# Altium schematic symbol library MyLibr.SchLib: 82 symbols
Pins are listed as number, name and electrical type; pins without a type are passive.

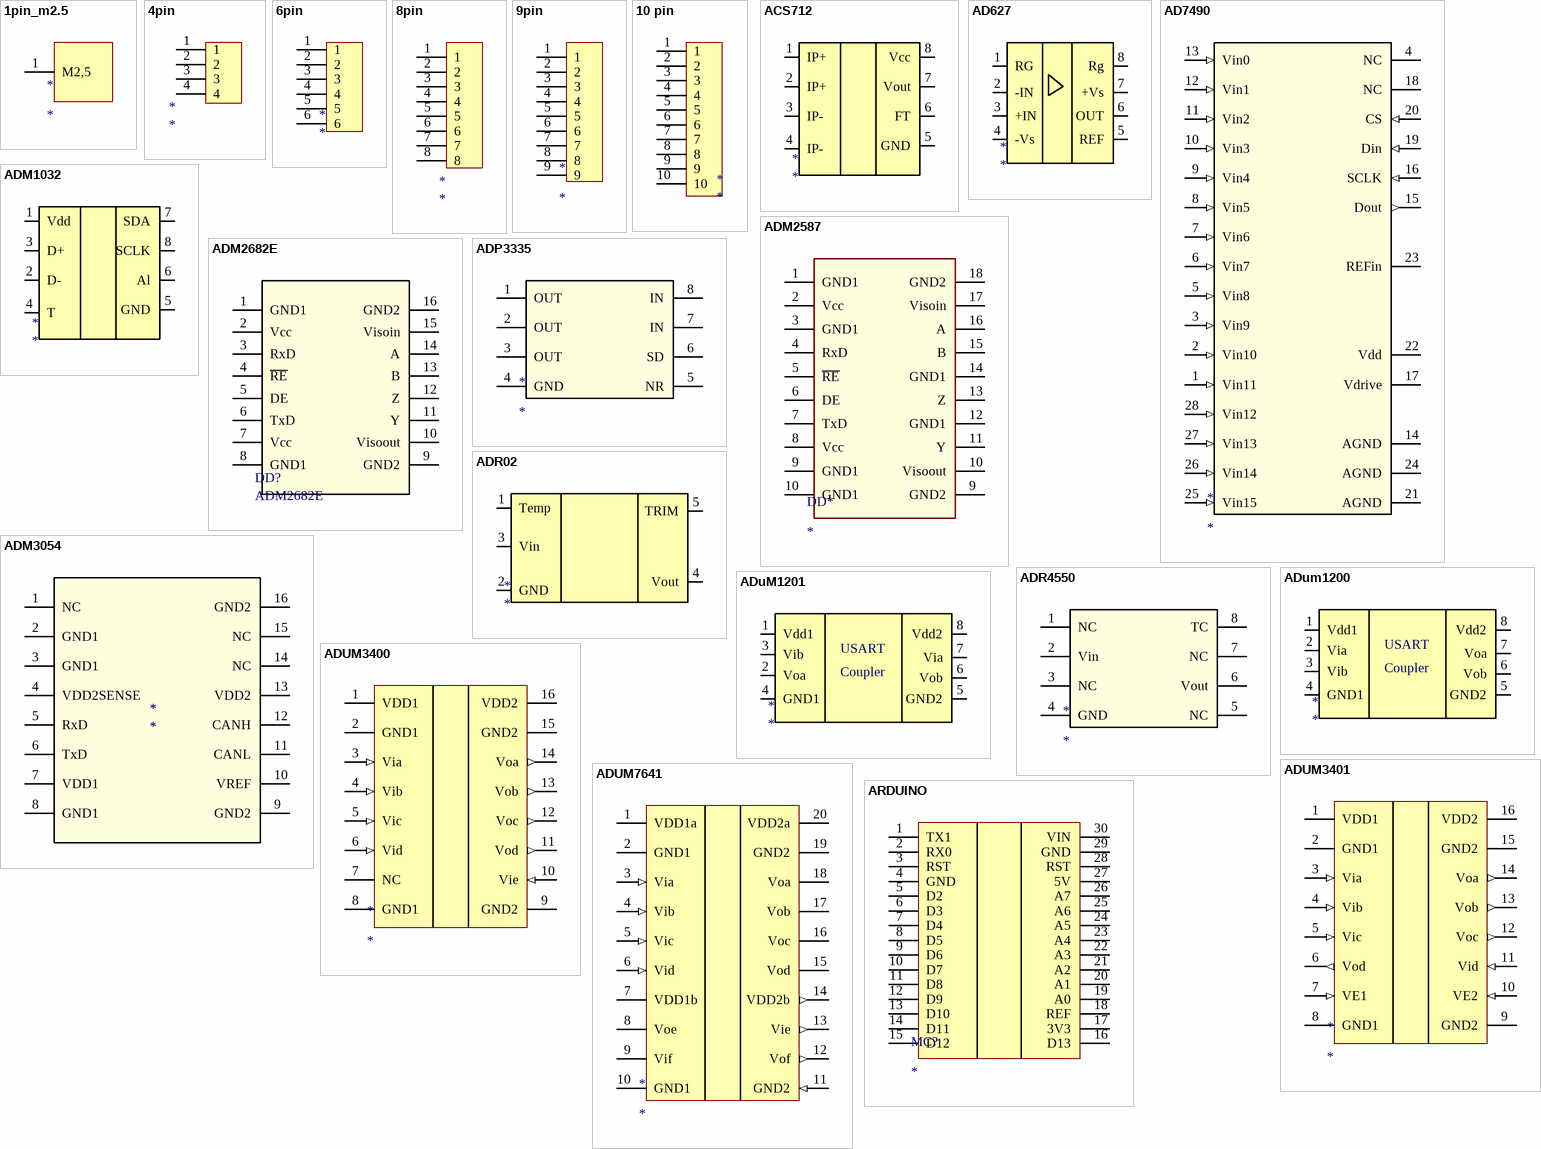
[diagram p0: symbols 1pin_m2.5 to ARDUINO]

## 1pin_m2.5
designator *
pins: 1 M2,5

## 4pin
designator *
pins: 1, 2, 3, 4

## 6pin
designator *
footprint 6pin
pins: 1, 2, 3, 4, 5, 6

## 8pin
designator *
footprint 10pin
pins: 1, 2, 3, 4, 5, 6, 7, 8

## 9pin
designator *
footprint 9PIN
pins: 1, 2, 3, 4, 5, 6, 7, 8, 9

## 10 pin
designator *
pins: 1, 2, 3, 4, 5, 6, 7, 8, 9, 10

## ACS712
designator *
footprint SOIC8N (SOIC, 8-Leads, Body 4,90x3,90mm, Pitch 1,27mm, IPC Medium Density)
pins: 1 IP+, 2 IP+, 3 IP-, 4 IP-, 5 GND, 6 FT, 7 Vout, 8 Vcc

## AD627
designator *
footprint SOIC8N (SOIC, 8-Leads, Body 4,90x3,90mm, Pitch 1,27mm, IPC Medium Density)
pins: 1 RG, 2 -IN, 3 +IN, 4 -Vs, 5 REF, 6 OUT, 7 +Vs, 8 Rg

## AD7490
designator *
footprint AD7490 (TSSOP, 28-Leads)
pins: 1 Vin11 (in), 2 Vin10 (in), 3 Vin9 (in), 4 NC, 5 Vin8 (in), 6 Vin7 (in), 7 Vin6 (in), 8 Vin5 (in), 9 Vin4 (in), 10 Vin3 (in), 11 Vin2 (in), 12 Vin1 (in), 13 Vin0 (in), 14 AGND (power), 15 Dout (out), 16 SCLK (in), 17 Vdrive (power), 18 NC, 19 Din (in), 20 CS (in), 21 AGND (power), 22 Vdd (power), 23 REFin (power), 24 AGND (power), 25 Vin15 (in), 26 Vin14 (in), 27 Vin13 (in), 28 Vin12 (in)

## ADM1032
designator *
pins: 1 Vdd, 2 D-, 3 D+, 4 T, 5 GND, 6 Al, 7 SDA, 8 SCLK

## ADM2587
designator DD*
pins: 1 GND1 (power), 2 Vcc (power), 3 GND1, 4 RxD, 5 ~{RE}, 6 DE, 7 TxD, 8 Vcc (power), 9 GND1 (power), 9 GND2 (power), 10 Visoout (power), 10 GND1, 11 Y, 12 GND1, 13 Z, 14 GND1, 15 B, 16 A, 17 Visoin (power), 18 GND2 (power)

## ADM2682E
designator DD?
footprint SOIC127P1030X265-16N (SOIC, 16-Leads, Body 12,75x7,50mm, Pitch 1,27mm, IPC Medium Density)
pins: 1 GND1 (power), 2 Vcc (power), 3 RxD, 4 ~{RE}, 5 DE, 6 TxD, 7 Vcc (power), 8 GND1 (power), 9 GND2 (power), 10 Visoout (power), 11 Y, 12 Z, 13 B, 14 A, 15 Visoin (power), 16 GND2 (power)

## ADM3054
designator *
footprint SOIC16N (SOIC, 16-Leads, Body 12,75x7,50mm, Pitch 1,27mm, IPC Medium Density)
pins: 1 NC, 2 GND1, 3 GND1, 4 VDD2SENSE, 5 RxD, 6 TxD, 7 VDD1, 8 GND1, 9 GND2, 10 VREF, 11 CANL, 12 CANH, 13 VDD2, 14 NC, 15 NC, 16 GND2

## ADP3335
designator *
footprint MSOP-8
pins: 1 OUT, 2 OUT, 3 OUT, 4 GND, 5 NR, 6 SD, 7 IN, 8 IN

## ADR02
designator *
footprint SOT95P245X110-5N (SOT23, 5-Leads, Body 2,90x2,45mm, Pitch 0,95mm, IPC Medium Density)
pins: 1 Temp, 2 GND, 3 Vin, 4 Vout, 5 TRIM

## ADR4550
designator *
footprint SOIC8N (SOIC, 8-Leads, Body 4,90x3,90mm, Pitch 1,27mm, IPC Medium Density)
pins: 1 NC, 2 Vin, 3 NC, 4 GND, 5 NC, 6 Vout, 7 NC, 8 TC

## ADum1200
designator *
footprint SOIC8N (SOIC, 8-Leads, Body 4,90x3,90mm, Pitch 1,27mm, IPC Medium Density)
pins: 1 Vdd1, 2 Via, 3 Vib, 4 GND1, 5 GND2, 6 Vob, 7 Voa, 8 Vdd2
text: USART; Coupler

## ADuM1201
designator *
pins: 1 Vdd1, 2 Voa, 3 Vib, 4 GND1, 5 GND2, 6 Vob, 7 Via, 8 Vdd2
text: USART; Coupler

## ADUM3400
designator *
footprint SOIC-16 (SOIC, 16-Leads, Body 10,30x7,50mm, Pitch 1,27mm, IPC Medium Density)
pins: 1 VDD1, 2 GND1, 3 Via (in), 4 Vib (in), 5 Vic (in), 6 Vid (in), 7 NC, 8 GND1, 9 GND2, 10 Vie (in), 11 Vod (out), 12 Voc (out), 13 Vob (out), 14 Voa (out), 15 GND2, 16 VDD2

## ADUM3401
designator *
footprint SOIC-16 (SOIC, 16-Leads, Body 10,30x7,50mm, Pitch 1,27mm, IPC Medium Density)
pins: 1 VDD1, 2 GND1, 3 Via (in), 4 Vib (in), 5 Vic (in), 6 Vod (out), 7 VE1 (in), 8 GND1, 9 GND2, 10 VE2 (in), 11 Vid (in), 12 Voc (out), 13 Vob (out), 14 Voa (out), 15 GND2, 16 VDD2

## ADUM7641
designator *
footprint QSOP20
footprint QSOP-20
pins: 1 VDD1a, 2 GND1, 3 Via (in), 4 Vib (in), 5 Vic (in), 6 Vid (in), 7 VDD1b, 8 Voe, 9 Vif, 10 GND1, 11 GND2 (in), 12 Vof (out), 13 Vie (out), 14 VDD2b (out), 15 Vod, 16 Voc, 17 Vob, 18 Voa, 19 GND2, 20 VDD2a

## ARDUINO
designator MC?
footprint Arduino_Nano
pins: 1 TX1, 2 RX0, 3 RST, 4 GND, 5 D2, 6 D3, 7 D4, 8 D5, 9 D6, 10 D7, 11 D8, 12 D9, 13 D10, 14 D11, 15 D12, 16 D13, 17 3V3, 18 REF, 19 A0, 20 A1, 21 A2, 22 A3, 23 A4, 24 A5, 25 A6, 26 A7, 27 5V, 28 RST, 29 GND, 30 VIN

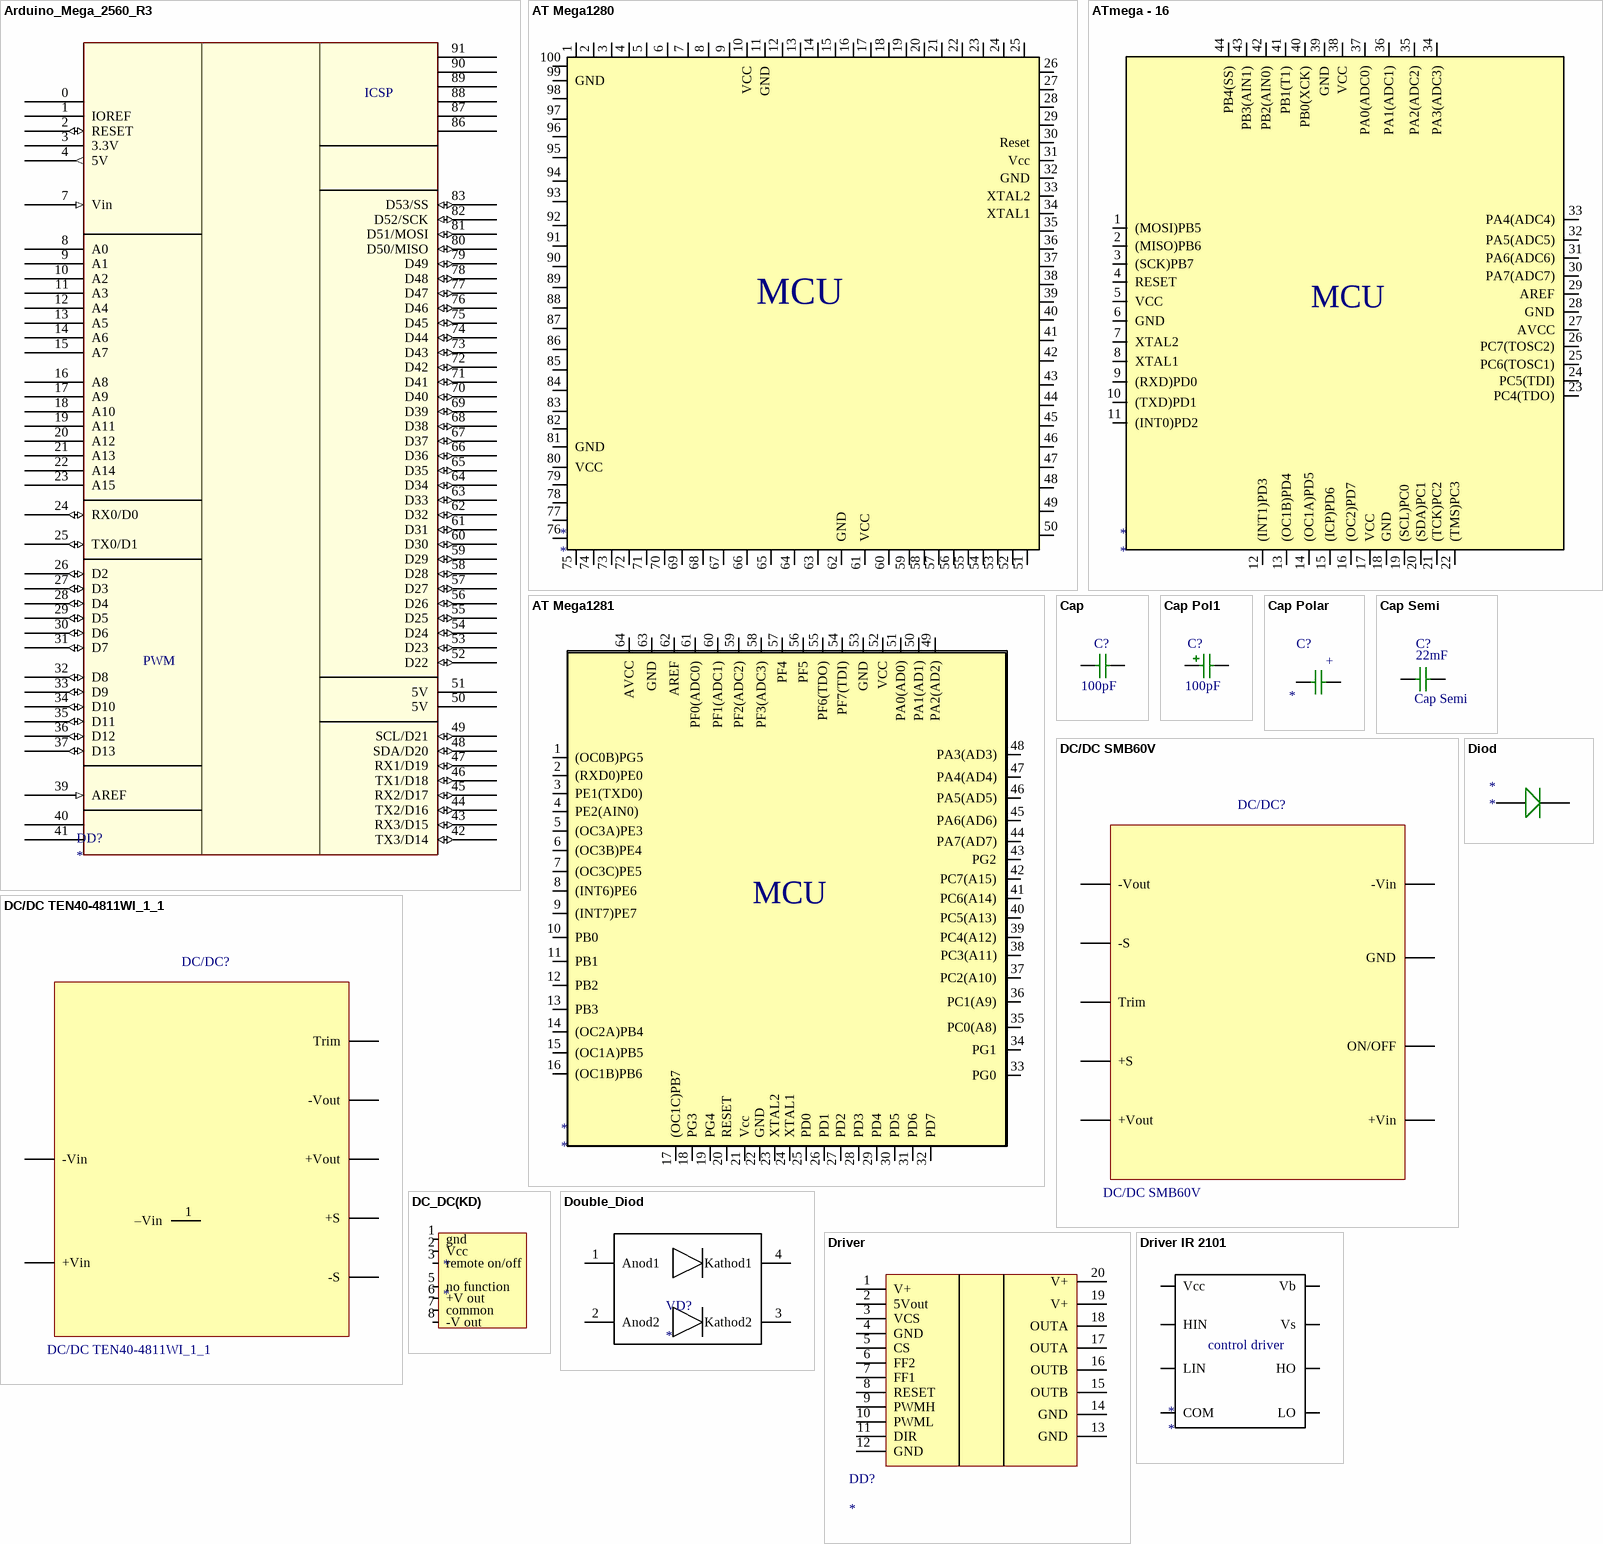
[diagram p1: symbols Arduino_Mega_2560_R3 to Driver IR 2101]

## Arduino_Mega_2560_R3
designator DD?
footprint Arduino_Mega_2560_R3
pins: 0  , 1 IOREF, 2 RESET (io), 3 3.3V (power), 4 5V (out), 5 GND (power) hidden to GND, 6 GND (power) hidden to GND, 7 Vin (in), 8 A0, 9 A1, 10 A2, 11 A3, 12 A4, 13 A5, 14 A6, 15 A7, 16 A8, 17 A9, 18 A10, 19 A11, 20 A12, 21 A13, 22 A14, 23 A15, 24 RX0/D0 (io), 25 TX0/D1 (io), 26 D2 (io), 27 D3 (io), 28 D4 (io), 29 D5 (io), 30 D6 (io), 31 D7 (io), 32 D8 (io), 33 D9 (io), 34 D10 (io), 35 D11 (io), 36 D12 (io), 37 D13 (io), 38 GND (power) hidden to GND, 39 AREF (in), 40  , 41  , 42 TX3/D14 (io), 43 RX3/D15 (io), 44 TX2/D16 (io), 45 RX2/D17 (io), 46 TX1/D18 (io), 47 RX1/D19 (io), 48 SDA/D20 (io), 49 SCL/D21 (io), 50 5V (power), 51 5V (power), 52 D22 (io), 53 D23 (io), 54 D24 (io), 55 D25 (io), 56 D26 (io), 57 D27 (io), 58 D28 (io), 59 D29 (io), 60 D30 (io), 61 D31 (io), 62 D32 (io), 63 D33 (io), 64 D34 (io), 65 D35 (io), 66 D36 (io), 67 D37 (io), 68 D38 (io), 69 D39 (io), 70 D40 (io), 71 D41 (io), 72 D42 (io), 73 D43 (io), 74 D44 (io), 75 D45 (io), 76 D46 (io), 77 D47 (io), 78 D48 (io), 79 D49 (io), 80 D50/MISO (io), 81 D51/MOSI (io), 82 D52/SCK (io), 83 D53/SS (io), 84 GND (power) hidden to GND, 85 GND (power) hidden to GND, 86  , 87  , 88  , 89  , 90  , 91  
text: ICSP; PWM

## AT Mega1280
designator *
footprint TSQFP50P1600X1600X120-100M (TSQFP, 100-Leads, Body 14,00x14,00mm, Pitch 0,50mm, IPC Low Density)
pins: 1 9, 2, 3, 4, 5, 6, 7, 8, 9, 10 VCC, 11 GND, 12, 13, 14, 15, 16, 17, 18, 19, 20, 21, 22, 23, 24, 25, 26, 27, 28, 29, 30 Reset, 31 Vcc, 32 GND, 33 XTAL2, 34 XTAL1, 35, 36, 37, 38, 39, 40, 41, 42, 43, 44, 45, 46, 47, 48, 49, 50, 51, 52, 53, 54, 55, 56, 57, 58, 59, 60, 61 VCC, 62 GND, 63, 64, 65, 66, 67, 68, 69, 70, 71, 72, 73, 74, 75, 76, 77, 78, 79, 80 VCC, 81 GND, 82, 83, 84, 85, 86, 87, 88, 89, 90, 91, 92, 93, 94, 95, 96, 97, 98, 99 GND, 100
1 alternate drawing of the same symbol
text: MCU

## AT Mega1281
designator *
pins: 1 (OC0B)PG5, 2 (RXD0)PE0, 3 PE1(TXD0), 4 PE2(AIN0), 5 (OC3A)PE3, 6 (OC3B)PE4, 7 (OC3C)PE5, 8 (INT6)PE6, 9 (INT7)PE7, 10 PB0, 11 PB1, 12 PB2, 13 PB3, 14 (OC2A)PB4, 15 (OC1A)PB5, 16 (OC1B)PB6, 17 (OC1C)PB7, 18 PG3, 19 PG4, 20 RESET, 21 Vcc, 22 GND, 23 XTAL2, 24 XTAL1, 25 PD0, 26 PD1, 27 PD2, 28 PD3, 29 PD4, 30 PD5, 31 PD6, 32 PD7, 33 PG0, 34 PG1, 35 PC0(A8), 36 PC1(A9), 37 PC2(A10), 38 PC3(A11), 39 PC4(A12), 40 PC5(A13), 41 PC6(A14), 42 PC7(A15), 43 PG2, 44 PA7(AD7), 45 PA6(AD6), 46 PA5(AD5), 47 PA4(AD4), 48 PA3(AD3), 49 PA2(AD2), 50 PA1(AD1), 51 PA0(AD0), 52 VCC, 53 GND, 54 PF7(TDI), 55 PF6(TDO), 56 PF5, 57 PF4, 58 PF3(ADC3), 59 PF2(ADC2), 60 PF1(ADC1), 61 PF0(ADC0), 62 AREF, 63 GND, 64 AVCC
text: MCU

## ATmega - 16
designator *
footprint TQFP80P1262X1262X120-44M (TQFP, 44-Leads, Body 10,20x10,20mm, Pitch 0,80mm, IPC Low Density)
pins: 1 (MOSI)PB5, 2 (MISO)PB6, 3 (SCK)PB7, 4 RESET, 5 VCC, 6 GND, 7 XTAL2, 8 XTAL1, 9 (RXD)PD0, 10 (TXD)PD1, 11 (INT0)PD2, 12 (INT1)PD3, 13 (OC1B)PD4, 14 (OC1A)PD5, 15 (ICP)PD6, 16 (OC2)PD7, 17 VCC, 18 GND, 19 (SCL)PC0, 20 (SDA)PC1, 21 (TCK)PC2, 22 (TMS)PC3, 23 PC4(TDO), 24 PC5(TDI), 25 PC6(TOSC1), 26 PC7(TOSC2), 27 AVCC, 28 GND, 29 AREF, 30 PA7(ADC7), 31 PA6(ADC6), 32 PA5(ADC5), 33 PA4(ADC4), 34 PA3(ADC3), 35 PA2(ADC2), 36 PA1(ADC1), 37 PA0(ADC0), 38 VCC, 39 GND, 40 PB0(XCK), 41 PB1(T1), 42 PB2(AIN0), 43 PB3(AIN1), 44 PB4(SS)
text: MCU

## Cap
designator C?  value 100pF  (hidden comment: Cap)
Capacitor; Published: 8-Jun-2000; LatestRevisionDate: 17-Jul-2002; LatestRevisionNote: Re-released for DXP Platform.; PackageReference: RAD-0.3; Publisher: Altium Limited; PackageDescription: Radial Cap, Thru-Hole; 2 Leads; 0.3 in Pin Spacing
footprint 0402 (MELF Resistor, 2-Leads, Body 1,05x0,53mm, IPC Medium Density)
pins: 1, 2

## Cap Pol1
designator C?  value 100pF  (hidden comment: Cap Pol1)
Polarized Capacitor (Radial); Published: 8-Jun-2000; LatestRevisionDate: 17-Jul-2002; LatestRevisionNote: Re-released for DXP Platform.; PackageReference: RB7.6-15; Publisher: Altium Limited; PackageDescription: Polarized Capacitor (Radial); 2 Leads
footprint C_0805 (Chip Capacitor, Body 2.0x1.3mm, IPC High Density)
pins: 1, 2
1 alternate drawing of the same symbol

## Cap Polar
designator C?
footprint C_0805 (Chip Capacitor, Body 2.0x1.3mm, IPC High Density)
pins: 1, 2
text: +

## Cap Semi
designator C?  value 22mF
Capacitor (Semiconductor SIM Model); Published: 8-Jun-2000; LatestRevisionDate: 29-May-2009; LatestRevisionNote: IPC-7351 Footprint Added.; PackageReference: C1206; Publisher: Altium Limited; PackageDescription: Chip Capacitor
footprint C_0805 (Chip Capacitor, Body 2.0x1.3mm, IPC High Density)
pins: 1, 2

## DC/DC SMB60V
designator DC/DC?
datasheet: http://newet.ru/upload/iblock/da3/da32c35c0007bb917bca288ed4fe9d4e.pdf
footprint SMB60V
pins: +S, +Vin, +Vout, -S, -Vin, -Vout, GND, ON/OFF, Trim

## DC/DC TEN40-4811WI_1_1
designator DC/DC?
datasheet: http://www.tracopower.com/products/ten40wi-application.pdf
footprint TEN 40
pins: 1 –Vin, +S, +Vin, +Vout, -S, -Vin, -Vout, Trim

## DC_DC(KD)
designator *
footprint SIP-8
pins: 1 gnd, 2 Vcc, 3 remote on/off, 5 no function, 6 +V out, 7 common, 8 -V out

## Diod
designator *
footprint DIOMELF2511N (MELF Diode, 2-Leads, Body 2,55x1,10mm, IPC Medium Density)
footprint 2pin_1.27
footprint D
pins: 1 A, 2 K

## Double_Diod
designator VD?
footprint Double_Diod
pins: 1 Anod1, 2 Anod2, 3 Kathod2, 4 Kathod1

## Driver
designator DD?
footprint Driver_Pads
pins: 1 V+, 2 5Vout, 3 VCS, 4 GND, 5 CS, 6 FF2, 7 FF1, 8 RESET, 9 PWMH, 10 PWML, 11 DIR, 12 GND, 13 GND, 14 GND, 15 OUTB, 16 OUTB, 17 OUTA, 18 OUTA, 19 V+, 20 V+

## Driver IR 2101
designator *
footprint SOIC8N (SOIC, 8-Leads, Body 4,90x3,90mm, Pitch 1,27mm, IPC Medium Density)
pins: 1 Vcc, 2 HIN, 3 LIN, 4 COM, 5 LO, 6 Vs, 7 HO, 8 Vb
text: control driver

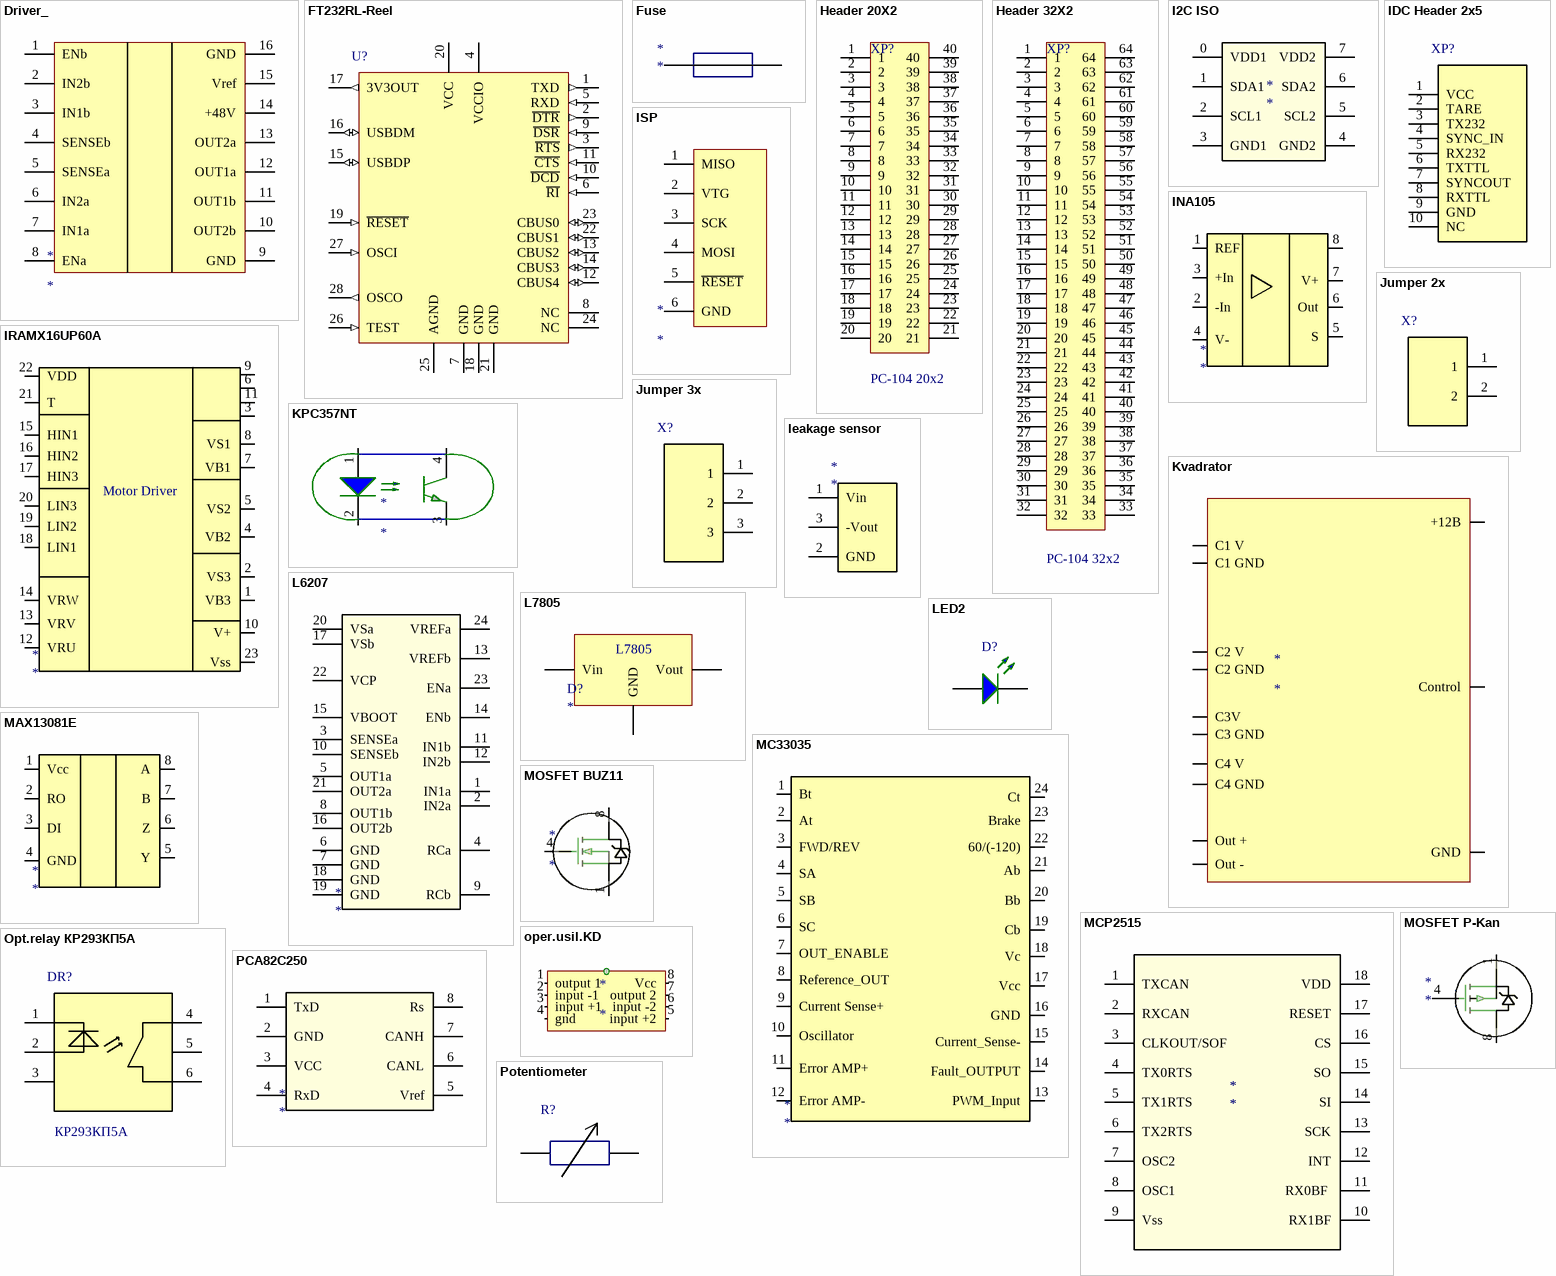
[diagram p2: symbols Driver_ to Potentiometer]

## Driver_
designator *
footprint Driver_
pins: 1 ENb, 2 IN2b, 3 IN1b, 4 SENSEb, 5 SENSEa, 6 IN2a, 7 IN1a, 8 ENa, 9 GND, 10 OUT2b, 11 OUT1b, 12 OUT1a, 13 OUT2a, 14 +48V, 15 Vref, 16 GND

## FT232RL-Reel
designator U?
USB UART Asynchronous Serial Data Transfer Chip, SSOP-28, Tape and Reel; Published: 19-Aug-2010; DatasheetVersion: ver 2.07, Jul-2010; PackageVersion: 2010; PackageReference: SSOP-28; Publisher: Altium Limited; PackageDescription: 28-Pin Small Outline Package 0.65 mm Pitch; ComponentLink1Description: Manufacturer Link; ComponentLink1URL: http://www.ftdichip.com/Products/ICs/FT232R.htm; ComponentLink2Description: Datasheet; ComponentLink2URL: http://www.ftdichip.com/Support/Documents/DataSheets/ICs/DS_FT232R.pdf
footprint SSOP-28_L
footprint SSOP-28_M (SOP, 28-Leads, Body 10.2x5.3mm, Pitch 0.65mm, IPC Low Density)
footprint SSOP-28_N (SOP, 28-Leads, Body 10.2x5.3mm, Pitch 0.65mm, IPC Medium Density)
pins: 1 TXD (out), 2 ~{DTR} (out), 3 ~{RTS} (out), 4 VCCIO (power), 5 RXD (in), 6 ~{RI} (in), 7 GND (power), 8 NC, 9 ~{DSR} (in), 10 ~{DCD} (in), 11 ~{CTS} (in), 12 CBUS4 (io), 13 CBUS2 (io), 14 CBUS3 (io), 15 USBDP (io), 16 USBDM (io), 17 3V3OUT (out), 18 GND (power), 19 ~{RESET} (in), 20 VCC (power), 21 GND (power), 22 CBUS1 (io), 23 CBUS0 (io), 24 NC, 25 AGND (power), 26 TEST (in), 27 OSCI (in), 28 OSCO (out)

## Fuse
designator *
pins: 1, 2

## Header 20X2
designator XP?, comment PC-104 20x2
Header, 20-Pin, Dual row; LatestRevisionDate: 17-Jul-2002; LatestRevisionNote: Re-released for DXP Platform.; Publisher: Altium Limited
footprint 2x20 PC-104 (Connector; Header; 20x2 Position)
pins: 1, 2, 3, 4, 5, 6, 7, 8, 9, 10, 11, 12, 13, 14, 15, 16, 17, 18, 19, 20, 21, 22, 23, 24, 25, 26, 27, 28, 29, 30, 31, 32, 33, 34, 35, 36, 37, 38, 39, 40

## Header 32X2
designator XP?, comment PC-104 32x2
Header, 32-Pin, Dual row; LatestRevisionDate: 17-Jul-2002; LatestRevisionNote: Re-released for DXP Platform.; Publisher: Altium Limited
footprint 2x32 PC-104 (Connector; Header; 32x2 Position 2.54mm)
pins: 1 "test", 2, 3, 4, 5, 6, 7, 8, 9, 10, 11, 12, 13, 14, 15, 16, 17, 18, 19, 20, 21, 22, 23, 24, 25, 26, 27, 28, 29, 30, 31, 32, 33, 34, 35, 36, 37, 38, 39, 40, 41, 42, 43, 44, 45, 46, 47, 48, 49, 50, 51, 52, 53, 54, 55, 56, 57, 58, 59, 60, 61, 62, 63, 64

## I2C ISO
designator *
pins: 0 VDD1, 1 SDA1, 2 SCL1, 3 GND1, 4 GND2, 5 SCL2, 6 SDA2, 7 VDD2

## IDC Header 2x5
designator XP?  (value not drawn)
footprint IDC-10F 2x5 2.0mm
pins: 1 VCC, 2 TARE, 3 TX232, 4 SYNC_IN, 5 RX232, 6 TXTTL, 7 SYNCOUT, 8 RXTTL, 9 GND, 10 NC

## INA105
designator *
footprint SOIC8N (SOIC, 8-Leads, Body 4,90x3,90mm, Pitch 1,27mm, IPC Medium Density)
pins: 1 REF, 2 -In, 3 +In, 4 V-, 5 S, 6 Out, 7 V+, 8

## IRAMX16UP60A
designator *
footprint IRAMX16UP60A
pins: 1 VB3, 2 VS3, 3 VS3, 4 VB2, 5 VS2, 6 VS2, 7 VB1, 8 VS1, 9 VS1, 10 V+, 11 V+, 12 VRU, 13 VRV, 14 VRW, 15 HIN1, 16 HIN2, 17 HIN3, 18 LIN1, 19 LIN2, 20 LIN3, 21 T, 22 VDD, 23 Vss
text: Motor Driver

## ISP
designator *
pins: 1 MISO, 2 VTG, 3 SCK, 4 MOSI, 5 ~{RESET}, 6 GND

## Jumper 2x
designator X?  (value not drawn)
footprint Jumper_2 (перемычка для плат)
pins: 1, 2

## Jumper 3x
designator X?  (value not drawn)
footprint Power PLUG
pins: 1, 2, 3

## KPC357NT
designator *
footprint Micro
pins: 1 A, 2 K, 3, 4

## Kvadrator
designator *
footprint Kvadrator
pins: 0 +12B, 0 C1 GND, 0 C1 V, 0 C2 V, 0 C2 GND, 0 C3V, 0 C3 GND, 0 C4 V, 0 C4 GND, 0 Out +, 0 Out -, 0 Control, 1 GND

## L6207
designator *
footprint SO24
pins: 1 IN1a, 2 IN2a, 3 SENSEa, 4 RCa, 5 OUT1a, 6 GND, 7 GND, 8 OUT1b, 9 RCb, 10 SENSEb, 11 IN1b, 12 IN2b, 13 VREFb, 14 ENb, 15 VBOOT, 16 OUT2b, 17 VSb, 18 GND, 19 GND, 20 VSa, 21 OUT2a, 22 VCP, 23 ENa, 24 VREFa

## L7805
designator D?
L7805_stab 12->5
pins: 1 Vin, 1 Vout, 2 GND

## leakage sensor
designator *
footprint SOT23
pins: 1 Vin, 2 GND, 3 -Vout

## LED2
designator D?  (value not drawn)
Typical RED, GREEN, YELLOW, AMBER GaAs LED; Published: 8-Jun-2000; LatestRevisionDate: 17-Jul-2002; LatestRevisionNote: Re-released for DXP Platform.; PackageVersion: Feb-2002; PackageReference: 3.2X1.6X1.1; Publisher: Altium Limited; PackageDescription: SM LED; 2 Flat Leads
footprint SMD_Diod (MELF Diode, 2-Leads, Body 1,70x0,85mm, IPC Medium Density)
pins: 1 A, 2 K

## MAX13081E
designator *
pins: 1 Vcc, 2 RO, 3 DI, 4 GND, 5 Y, 6 Z, 7 B, 8 A

## MC33035
designator *
pins: 1 Bt, 2 At, 3 FWD/REV, 4 SA, 5 SB, 6 SC, 7 OUT_ENABLE, 8 Reference_OUT, 9 Current Sense+, 10 Oscillator, 11 Error AMP+, 12 Error AMP-, 13 PWM_Input, 14 Fault_OUTPUT, 15 Current_Sense-, 16 GND, 17 Vcc, 18 Vc, 19 Cb, 20 Bb, 21 Ab, 22 60/(-120), 23 Brake, 24 Ct

## MCP2515
designator *
footprint SOIC18N (SOIC, 18-Leads, Body 11,53x7,50mm, Pitch 1,27mm, IPC Medium Density)
pins: 1 TXCAN, 2 RXCAN, 3 CLKOUT/SOF, 4 TX0RTS, 5 TX1RTS, 6 TX2RTS , 7 OSC2, 8 OSC1 , 9 Vss, 10 RX1BF, 11 RX0BF , 12 INT, 13 SCK, 14 SI, 15 SO, 16 CS, 17 RESET, 18 VDD

## MOSFET BUZ11
designator *
footprint Mosfet
footprint DirectFet
footprint SOIC8N (SOIC, 8-Leads, Body 4,90x3,90mm, Pitch 1,27mm, IPC Medium Density)
pins: 1, 4, 8

## MOSFET P-Kan
designator *
footprint SOIC8N (SOIC, 8-Leads, Body 4,90x3,90mm, Pitch 1,27mm, IPC Medium Density)
pins: 1, 4, 8

## oper.usil.KD
designator *
footprint DIP-8
pins: 1 output 1, 2 input -1, 3 input +1, 4 gnd, 5 input +2, 6 input -2, 7 output 2, 8 Vcc

## Opt.relay КР293КП5А
designator DR?, comment КР293КП5А
footprint DIP-6
pins: 1, 2, 3, 4, 5, 6

## PCA82C250
designator *
footprint SOIC8N (SOIC, 8-Leads, Body 4,90x3,90mm, Pitch 1,27mm, IPC Medium Density)
pins: 1 TxD, 2 GND, 3 VCC, 4 RxD, 5 Vref, 6 CANL, 7 CANH, 8 Rs

## Potentiometer
designator R?  (value not drawn)
footprint 3314g
pins: 1, 2, 3

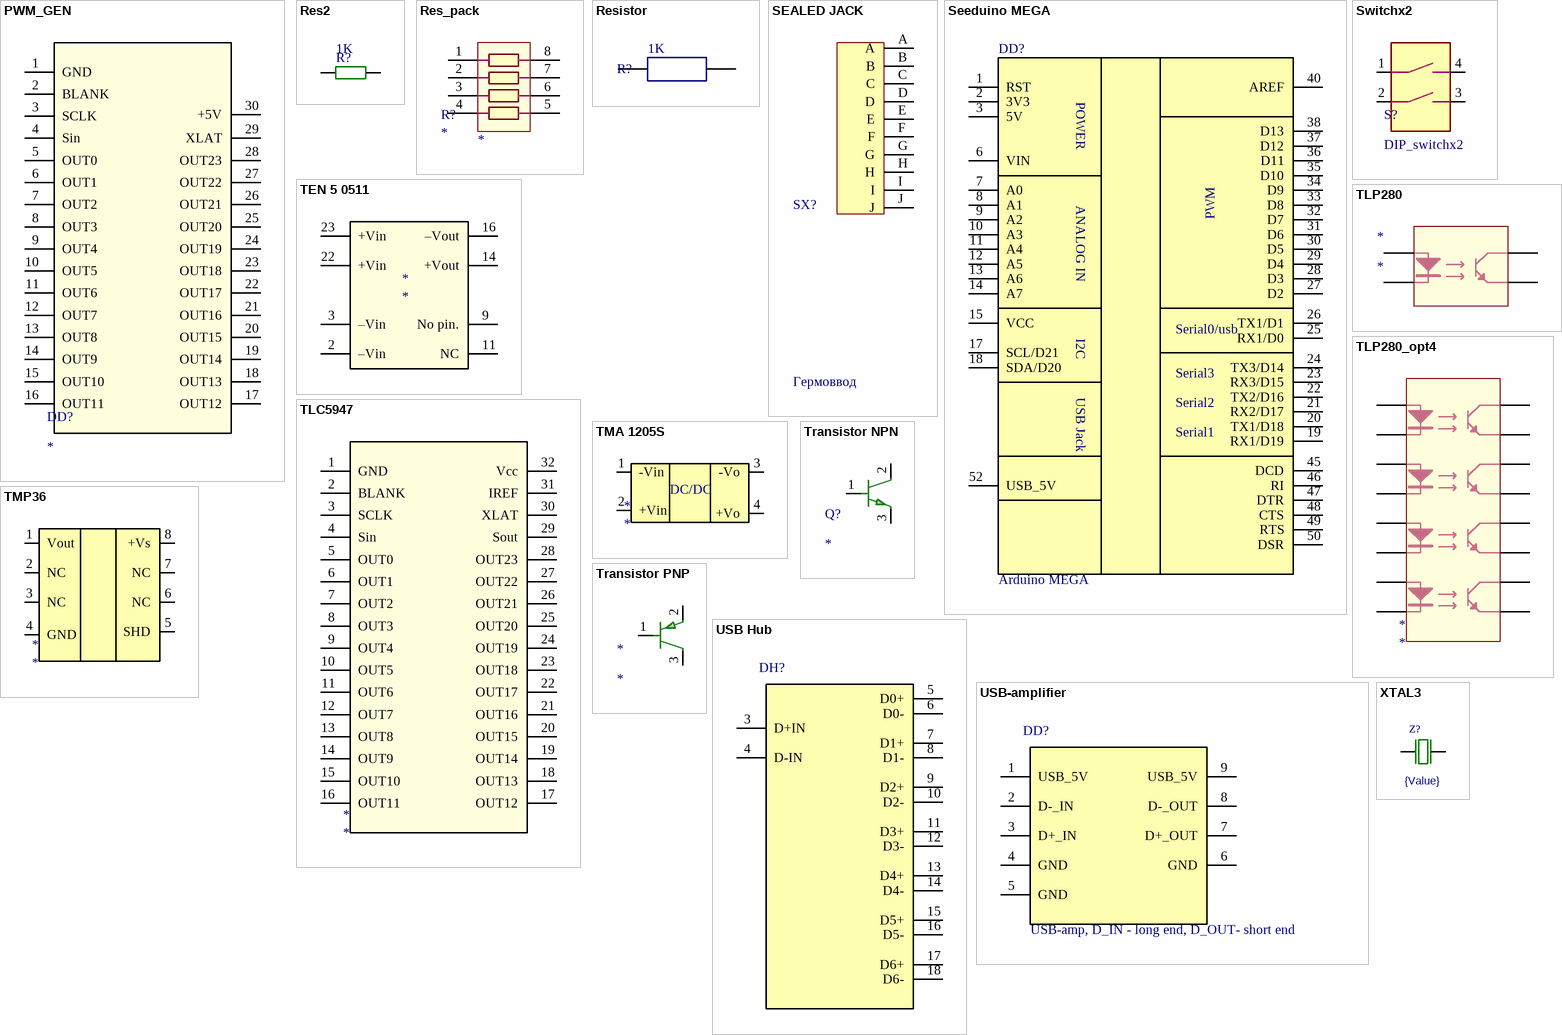
[diagram p3: symbols PWM_GEN to XTAL3]

## PWM_GEN
designator DD?
footprint PWM_GEN
pins: 1 GND, 2 BLANK, 3 SCLK, 4 Sin, 5 OUT0, 6 OUT1, 7 OUT2, 8 OUT3, 9 OUT4, 10 OUT5, 11 OUT6, 12 OUT7, 13 OUT8, 14 OUT9, 15 OUT10, 16 OUT11, 17 OUT12, 18 OUT13, 19 OUT14, 20 OUT15, 21 OUT16, 22 OUT17, 23 OUT18, 24 OUT19, 25 OUT20, 26 OUT21, 27 OUT22, 28 OUT23, 29 XLAT, 30 +5V

## Res2
designator R?  value 1K  (hidden comment: Res2)
Resistor; Published: 8-Jun-2000; LatestRevisionDate: 17-Jul-2002; LatestRevisionNote: Re-released for DXP Platform.; PackageReference: AXIAL-0.4; Publisher: Altium Limited; PackageDescription: Axial Device, Thru-Hole; 2 Leads; 0.4 in Pin Spacing
footprint 0402 (MELF Resistor, 2-Leads, Body 1,05x0,53mm, IPC Medium Density)
pins: 1, 2

## Res_pack
designator R?
Resistance: *
pins: 1, 2, 3, 4, 5, 6, 7, 8

## Resistor
designator R?  value 1K  (hidden comment: Resistor)
Published: 8-Jun-2000; LatestRevisionDate: 29-May-2009; LatestRevisionNote: IPC-7351 Footprint Added.; PackageReference: J1-0603; Publisher: Altium Limited; PackageDescription: Chip Resistor
footprint 0603 - duplicate (Chip Resistor, 2-Leads, Body 1,40x0,80mm, IPC Medium Density)
pins: 1, 2

## SEALED JACK
designator SX?, comment Гермоввод
footprint SealedJack 10 (Гермоввод 10 пинов)
footprint SealedJack 4 (Гермоввод 4 пина)
footprint SealedJack 7 Round (Гермоввод 7 пинов)
footprint SEALEDJACK 7 long (Гермоввод 7 пинов, вытянутой гнездо)
footprint SEALEDJACK 4 long (Гермоввод 4 пинов, вытянутое гнездо)
pins: A, B, C, D, E, F, G, H, I, J
2 alternate drawings of the same symbol

## Seeduino MEGA
designator DD?, comment Arduino MEGA
footprint Seeduino Mega w/USB
pins: 1 RST, 2 3V3, 3 5V, 4 GND (power) hidden to GND, 5 GND (power) hidden to GND, 6 VIN, 7 A0, 8 A1, 9 A2, 10 A3, 11 A4, 12 A5, 13 A6, 14 A7, 15 VCC, 16 GND (power) hidden to GND, 17 SCL/D21, 18 SDA/D20, 19 RX1/D19, 20 TX1/D18, 21 RX2/D17, 22 TX2/D16, 23 RX3/D15, 24 TX3/D14, 25 RX1/D0, 26 TX1/D1, 27 D2, 28 D3, 29 D4, 30 D5, 31 D6, 32 D7, 33 D8, 34 D9, 35 D10, 36 D11, 37 D12, 38 D13, 39 GND (power) hidden to GND, 40 AREF, 45 DCD, 46 RI, 47 DTR, 48 CTS, 49 RTS, 50 DSR, 51 GND hidden to GND, 52 USB_5V
text: POWER; ANALOG IN; PWM; I2C; Serial0/usb; Serial3; USB Jack; Serial2; Serial1

## Switchx2
designator S?, comment DIP_switchx2
pins: 1, 2, 3, 4

## TEN 5 0511
designator *
footprint TEN 5-0511
pins: 2 –Vin, 3 –Vin, 9 No pin., 11 NC, 14 +Vout, 16 –Vout, 22 +Vin , 23 +Vin 

## TLC5947
designator *
footprint TSOP (TSOP, 32-Leads, Body 11,00x6,10mm, Pitch 0,65mm, IPC Medium Density)
pins: 1 GND, 2 BLANK, 3 SCLK, 4 Sin, 5 OUT0, 6 OUT1, 7 OUT2, 8 OUT3, 9 OUT4, 10 OUT5, 11 OUT6, 12 OUT7, 13 OUT8, 14 OUT9, 15 OUT10, 16 OUT11, 17 OUT12, 18 OUT13, 19 OUT14, 20 OUT15, 21 OUT16, 22 OUT17, 23 OUT18, 24 OUT19, 25 OUT20, 26 OUT21, 27 OUT22, 28 OUT23, 29 Sout, 30 XLAT, 31 IREF, 32 Vcc

## TLP280
designator *
pins: 1, 2, 3, 4

## TLP280_opt4
designator *
pins: 28, 28, 28, 28, 29, 29, 29, 29, 36, 36, 36, 36, 37, 37, 37, 37

## TMA 1205S
designator *
footprint RO1224S
pins: 1 -Vin, 2 +Vin, 3 -Vo, 4 +Vo
text: DC/DC

## TMP36
designator *
footprint SOIC8N (SOIC, 8-Leads, Body 4,90x3,90mm, Pitch 1,27mm, IPC Medium Density)
pins: 1 Vout, 2 NC, 3 NC, 4 GND, 5 SHD, 6 NC, 7 NC, 8 +Vs

## Transistor NPN
designator Q?
footprint SOT23
pins: 1, 2, 3

## Transistor PNP
designator *
footprint SOT23
pins: 1, 2, 3

## USB Hub
designator DH?  (value not drawn)
footprint USB Hub
pins: 1 USB_5V hidden to USB_5V, 2 GND hidden to GND, 3 D+IN, 4 D-IN, 5 D0+, 6 D0-, 7 D1+, 8 D1-, 9 D2+, 10 D2-, 11 D3+, 12 D3-, 13 D4+, 14 D4-, 15 D5+, 16 D5-, 17 D6+, 18 D6-, 19 USB_5V hidden to USB_5V, 20 USB_5V hidden to USB_5V, 21 USB_5V hidden to USB_5V, 22 USB_5V hidden to USB_5V, 23 USB_5V hidden to USB_5V, 24 USB_5V hidden to USB_5V, 25 USB_5V hidden to USB_5V, 26 GND hidden to GND, 27 GND hidden to GND, 28 GND hidden to GND, 29 GND hidden to GND, 30 GND hidden to GND, 31 GND hidden to GND, 32 GND hidden to GND

## USB-amplifier
designator DD?, comment USB-amp, D_IN - long end, D_OUT- short end
footprint Usb-amp
pins: 1 USB_5V, 2 D-_IN, 3 D+_IN, 4 GND, 5 GND, 6 GND, 7 D+_OUT, 8 D-_OUT, 9 USB_5V

## XTAL3
designator Z?  value {Value}  (hidden comment: *)
XTAL
footprint KX-13
pins: 1, 3